# Altium schematic symbol library Generic-32TQFP.SchLib: 1 symbol
Pins are listed as number, name and electrical type; pins without a type are passive.

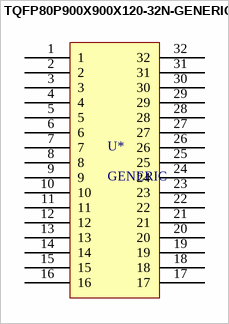
[diagram p0: symbol TQFP80P900X900X120-32N-GENERIC]

## TQFP80P900X900X120-32N-GENERIC
designator U*, comment GENERIC
footprint TQFP80P900X900X120-32N-GENERIC (TQFP, 32-Leads, Body 7.00x7.00mm, Pitch 0.80mm, IPC Medium Density)
pins: 1, 2, 3, 4, 5, 6, 7, 8, 9, 10, 11, 12, 13, 14, 15, 16, 17, 18, 19, 20, 21, 22, 23, 24, 25, 26, 27, 28, 29, 30, 31, 32